# Altium integrated library Linear Technology Power Management Power-Over-Ethernet (PoE) Interface Controllers.IntLib: 174 symbols (part 14 of 16)
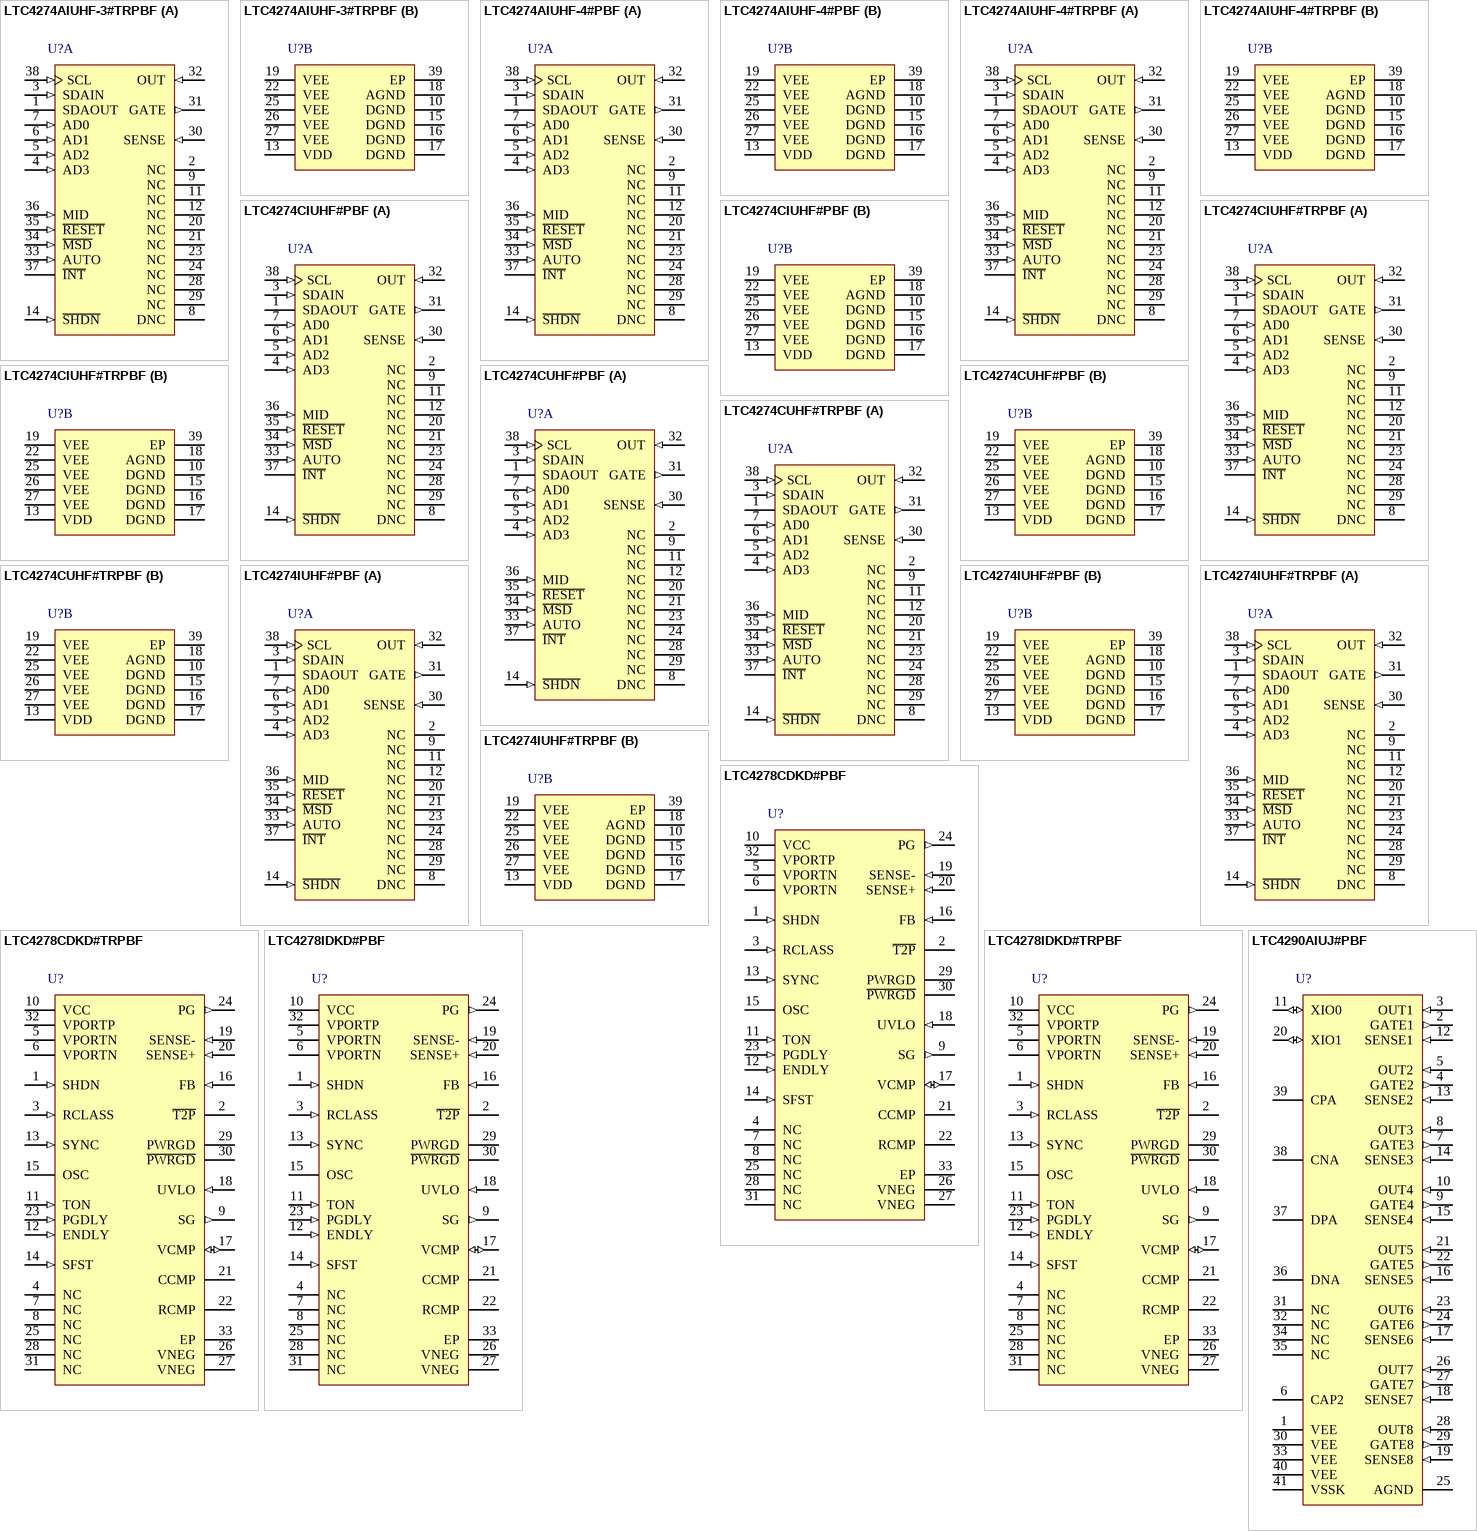
[diagram p21: symbols LTC4274AIUHF-3#TRPBF to LTC4290AIUJ#PBF]

## LTC4274AIUHF-3#TRPBF
designator U?
Single PoE / PoE+ / LTPoE++ PSE Controller, 38-pin QFN (UHF-38), -40 to 85 degC, Pb-Free, Tape and Reel; Manufacturer: Linear Technology; PartNumber: LTC4274AIUHF-3#TRPBF; Channels(#): 1; Extended Temp: I; I2C Interface: yes; Max Power(W): 70; PoE Type: 1, 2, LTPoE++; DatasheetVersion: Rev. C; PackageVersion: Rev. C, 06/2010; PackageReference: UHF-38; PackageDescription: 38-Pin Plastic QFN, Body 7 x 5 mm, Pitch 0.5 mm; Supplier 1: Digi-Key; Supplier Part Number 1: LTC4274AIUHF-3#TRPBF-ND; Packing: Tape and Reel; PSE/PD: PSE; RoHS: TRUE; Mounting Technology: Surface Mount; Code_JEDEC: MO-220; ComponentLink1Description: Manufacturer URL; ComponentLink1URL: http://www.linear.com/; ComponentLink2Description: Datasheet; ComponentLink2URL: http://cds.linear.com/docs/en/datasheet/4274acfc.pdf; ComponentLink3Description: Package Specification; ComponentLink3URL: http://cds.linear.com/docs/en/packaging/QFN_38_05-08-1701.pdf
footprint LT-UHF-38_N (QFN, 38-Leads, Body 7.1x5.1mm, Pitch 0.5mm, Thermal Pad 3.15x5.15mm, IPC Medium Density)
footprint LT-UHF-38_L (QFN, 38-Leads, Body 7.1x5.1mm, Pitch 0.5mm, Thermal Pad 3.15x5.15mm, IPC High Density)
footprint LT-UHF-38_M (QFN, 38-Leads, Body 7.1x5.1mm, Pitch 0.5mm, Thermal Pad 3.15x5.15mm, IPC Low Density)
part A pins: 1 SDAOUT (oc) "Serial Data Output, Open Drain Data Output for the I2C Serial Interface Bus.", 2 NC "All pins identified with ''NC''± or ''DNC''± must be left unconnected.", 3 SDAIN (in) "Serial Data Input. High impedance data input for the I2C serial interface bus.", 4 AD3 (in) "Address Bit 3.", 5 AD2 (in) "Address Bit 2. See AD3.", 6 AD1 (in) "Address Bit 1. See AD3.", 7 AD0 (in) "Address Bit 0. See AD3.", 8 DNC "All pins identified with ''NC''± or ''DNC''± must be left unconnected.", 9 NC "All pins identified with ''NC''± or ''DNC''± must be left unconnected.", 11 NC "All pins identified with ''NC''± or ''DNC''± must be left unconnected.", 12 NC "All pins identified with ''NC''± or ''DNC''± must be left unconnected.", 14 ~{SHDN} (in) "Shutdown, Active Low. When pulled low, S\H\D\N\ shuts down the port, regardless of the state of the internal registers. Pulling S\H\D\N\ low is equivalent to setting the Reset Port bit in the Reset Pushbutton register (1Ah). (See Datasheet)", 20 NC "All pins identified with ''NC''± or ''DNC''± must be left unconnected.", 21 NC "All pins identified with ''NC''± or ''DNC''± must be left unconnected.", 23 NC "All pins identified with ''NC''± or ''DNC''± must be left unconnected.", 24 NC "All pins identified with ''NC''± or ''DNC''± must be left unconnected.", 28 NC "All pins identified with ''NC''± or ''DNC''± must be left unconnected.", 29 NC "All pins identified with ''NC''± or ''DNC''± must be left unconnected.", 30 SENSE (in) "Current Sense Input. SENSE monitors the external MOSFET current via a 0.5ohm or 0.25ohm sense resistor between SENSE and VEE. Whenever the voltage across the sense resistor exceeds the overcurrent detection threshold VCUT, (See Datasheet)", 31 GATE (out) "Gate Drive. GATE should be connected to the gate of the external MOSFET for the port. When the MOSFET is turned on, the gate voltage is driven to 12V (typ) above VEE. During a current limit condition, the voltage at GATE (See Datasheet)", 32 OUT (in) "Output Voltage Monitor. OUT should be connected to the output port. A current limit foldback circuit limits the power dissipation in the external MOSFET by reducing the current limit threshold when the drain-to-source (See Datasheet)", 33 AUTO (in) "AUTO Pin Mode Input.", 34 ~{MSD} (in) "Maskable Shutdown Input. Active low. When pulled low, all ports that have their corresponding mask bit set in the Misc Config register (17h) will be reset, equivalent to pulling the S\H\D\N\ pin low. Internal filtering of (See Datasheet)", 35 ~{RESET} (in) "Chip Reset, Active Low.", 36 MID (in) "Midspan Mode Input.", 37 ~{INT} (hiz) "Interrupt Output, Open Drain.", 38 SCL (in) "Serial Clock Input. High impedance clock input for the I2C serial interface bus. SCL must be tied high if not used."
part B pins: 10 DGND (power) "Digital Ground. DGND is the return for the VDD supply.", 13 VDD (power) "Logic Power Supply. Connect to a 3.3V power supply relative to DGND.", 15 DGND (power) "Digital Ground. DGND is the return for the VDD supply.", 16 DGND (power) "Digital Ground. DGND is the return for the VDD supply.", 17 DGND (power) "Digital Ground. DGND is the return for the VDD supply.", 18 AGND (power) "Analog Ground. AGND is the return for the VEE supply.", 19 VEE (power) "Main Supply Input. Connect to a -45V to -57V supply, relative to AGND.", 22 VEE (power) "Main Supply Input. Connect to a -45V to -57V supply, relative to AGND.", 25 VEE (power) "Main Supply Input. Connect to a -45V to -57V supply, relative to AGND.", 26 VEE (power) "Main Supply Input. Connect to a -45V to -57V supply, relative to AGND.", 27 VEE (power) "Main Supply Input. Connect to a -45V to -57V supply, relative to AGND.", 39 EP (power)

## LTC4274AIUHF-4#PBF
designator U?
Single PoE / PoE+ / LTPoE++ PSE Controller, 38-pin QFN (UHF-38), -40 to 85 degC, Pb-Free; Manufacturer: Linear Technology; PartNumber: LTC4274AIUHF-4#PBF; Channels(#): 1; Extended Temp: I; I2C Interface: yes; Max Power(W): 90; PoE Type: 1, 2, LTPoE++; DatasheetVersion: Rev. C; PackageVersion: Rev. C, 06/2010; PackageReference: UHF-38; PackageDescription: 38-Pin Plastic QFN, Body 7 x 5 mm, Pitch 0.5 mm; Supplier 1: Digi-Key; Supplier Part Number 1: LTC4274AIUHF-4#PBF-ND; Supplier 2: Farnell; Supplier Part Number 2: 2293156; Supplier 3: Newark; Supplier Part Number 3: 59T5722; PSE/PD: PSE; RoHS: TRUE; Mounting Technology: Surface Mount; Code_JEDEC: MO-220; ComponentLink1Description: Manufacturer URL; ComponentLink1URL: http://www.linear.com/; ComponentLink2Description: Datasheet; ComponentLink2URL: http://cds.linear.com/docs/en/datasheet/4274acfc.pdf; ComponentLink3Description: Package Specification; ComponentLink3URL: http://cds.linear.com/docs/en/packaging/QFN_38_05-08-1701.pdf
footprint LT-UHF-38_N (QFN, 38-Leads, Body 7.1x5.1mm, Pitch 0.5mm, Thermal Pad 3.15x5.15mm, IPC Medium Density)
footprint LT-UHF-38_L (QFN, 38-Leads, Body 7.1x5.1mm, Pitch 0.5mm, Thermal Pad 3.15x5.15mm, IPC High Density)
footprint LT-UHF-38_M (QFN, 38-Leads, Body 7.1x5.1mm, Pitch 0.5mm, Thermal Pad 3.15x5.15mm, IPC Low Density)
part A pins: 1 SDAOUT (oc) "Serial Data Output, Open Drain Data Output for the I2C Serial Interface Bus.", 2 NC "All pins identified with ''NC''± or ''DNC''± must be left unconnected.", 3 SDAIN (in) "Serial Data Input. High impedance data input for the I2C serial interface bus.", 4 AD3 (in) "Address Bit 3.", 5 AD2 (in) "Address Bit 2. See AD3.", 6 AD1 (in) "Address Bit 1. See AD3.", 7 AD0 (in) "Address Bit 0. See AD3.", 8 DNC "All pins identified with ''NC''± or ''DNC''± must be left unconnected.", 9 NC "All pins identified with ''NC''± or ''DNC''± must be left unconnected.", 11 NC "All pins identified with ''NC''± or ''DNC''± must be left unconnected.", 12 NC "All pins identified with ''NC''± or ''DNC''± must be left unconnected.", 14 ~{SHDN} (in) "Shutdown, Active Low. When pulled low, S\H\D\N\ shuts down the port, regardless of the state of the internal registers. Pulling S\H\D\N\ low is equivalent to setting the Reset Port bit in the Reset Pushbutton register (1Ah). (See Datasheet)", 20 NC "All pins identified with ''NC''± or ''DNC''± must be left unconnected.", 21 NC "All pins identified with ''NC''± or ''DNC''± must be left unconnected.", 23 NC "All pins identified with ''NC''± or ''DNC''± must be left unconnected.", 24 NC "All pins identified with ''NC''± or ''DNC''± must be left unconnected.", 28 NC "All pins identified with ''NC''± or ''DNC''± must be left unconnected.", 29 NC "All pins identified with ''NC''± or ''DNC''± must be left unconnected.", 30 SENSE (in) "Current Sense Input. SENSE monitors the external MOSFET current via a 0.5ohm or 0.25ohm sense resistor between SENSE and VEE. Whenever the voltage across the sense resistor exceeds the overcurrent detection threshold VCUT, (See Datasheet)", 31 GATE (out) "Gate Drive. GATE should be connected to the gate of the external MOSFET for the port. When the MOSFET is turned on, the gate voltage is driven to 12V (typ) above VEE. During a current limit condition, the voltage at GATE (See Datasheet)", 32 OUT (in) "Output Voltage Monitor. OUT should be connected to the output port. A current limit foldback circuit limits the power dissipation in the external MOSFET by reducing the current limit threshold when the drain-to-source (See Datasheet)", 33 AUTO (in) "AUTO Pin Mode Input.", 34 ~{MSD} (in) "Maskable Shutdown Input. Active low. When pulled low, all ports that have their corresponding mask bit set in the Misc Config register (17h) will be reset, equivalent to pulling the S\H\D\N\ pin low. Internal filtering of (See Datasheet)", 35 ~{RESET} (in) "Chip Reset, Active Low.", 36 MID (in) "Midspan Mode Input.", 37 ~{INT} (hiz) "Interrupt Output, Open Drain.", 38 SCL (in) "Serial Clock Input. High impedance clock input for the I2C serial interface bus. SCL must be tied high if not used."
part B pins: 10 DGND (power) "Digital Ground. DGND is the return for the VDD supply.", 13 VDD (power) "Logic Power Supply. Connect to a 3.3V power supply relative to DGND.", 15 DGND (power) "Digital Ground. DGND is the return for the VDD supply.", 16 DGND (power) "Digital Ground. DGND is the return for the VDD supply.", 17 DGND (power) "Digital Ground. DGND is the return for the VDD supply.", 18 AGND (power) "Analog Ground. AGND is the return for the VEE supply.", 19 VEE (power) "Main Supply Input. Connect to a -45V to -57V supply, relative to AGND.", 22 VEE (power) "Main Supply Input. Connect to a -45V to -57V supply, relative to AGND.", 25 VEE (power) "Main Supply Input. Connect to a -45V to -57V supply, relative to AGND.", 26 VEE (power) "Main Supply Input. Connect to a -45V to -57V supply, relative to AGND.", 27 VEE (power) "Main Supply Input. Connect to a -45V to -57V supply, relative to AGND.", 39 EP (power)

## LTC4274AIUHF-4#TRPBF
designator U?
Single PoE / PoE+ / LTPoE++ PSE Controller, 38-pin QFN (UHF-38), -40 to 85 degC, Pb-Free, Tape and Reel; Manufacturer: Linear Technology; PartNumber: LTC4274AIUHF-4#TRPBF; Channels(#): 1; Extended Temp: I; I2C Interface: yes; Max Power(W): 90; PoE Type: 1, 2, LTPoE++; DatasheetVersion: Rev. C; PackageVersion: Rev. C, 06/2010; PackageReference: UHF-38; PackageDescription: 38-Pin Plastic QFN, Body 7 x 5 mm, Pitch 0.5 mm; Supplier 1: Digi-Key; Supplier Part Number 1: LTC4274AIUHF-4#TRPBF-ND; Packing: Tape and Reel; PSE/PD: PSE; RoHS: TRUE; Mounting Technology: Surface Mount; Code_JEDEC: MO-220; ComponentLink1Description: Manufacturer URL; ComponentLink1URL: http://www.linear.com/; ComponentLink2Description: Datasheet; ComponentLink2URL: http://cds.linear.com/docs/en/datasheet/4274acfc.pdf; ComponentLink3Description: Package Specification; ComponentLink3URL: http://cds.linear.com/docs/en/packaging/QFN_38_05-08-1701.pdf
footprint LT-UHF-38_N (QFN, 38-Leads, Body 7.1x5.1mm, Pitch 0.5mm, Thermal Pad 3.15x5.15mm, IPC Medium Density)
footprint LT-UHF-38_L (QFN, 38-Leads, Body 7.1x5.1mm, Pitch 0.5mm, Thermal Pad 3.15x5.15mm, IPC High Density)
footprint LT-UHF-38_M (QFN, 38-Leads, Body 7.1x5.1mm, Pitch 0.5mm, Thermal Pad 3.15x5.15mm, IPC Low Density)
part A pins: 1 SDAOUT (oc) "Serial Data Output, Open Drain Data Output for the I2C Serial Interface Bus.", 2 NC "All pins identified with ''NC''± or ''DNC''± must be left unconnected.", 3 SDAIN (in) "Serial Data Input. High impedance data input for the I2C serial interface bus.", 4 AD3 (in) "Address Bit 3.", 5 AD2 (in) "Address Bit 2. See AD3.", 6 AD1 (in) "Address Bit 1. See AD3.", 7 AD0 (in) "Address Bit 0. See AD3.", 8 DNC "All pins identified with ''NC''± or ''DNC''± must be left unconnected.", 9 NC "All pins identified with ''NC''± or ''DNC''± must be left unconnected.", 11 NC "All pins identified with ''NC''± or ''DNC''± must be left unconnected.", 12 NC "All pins identified with ''NC''± or ''DNC''± must be left unconnected.", 14 ~{SHDN} (in) "Shutdown, Active Low. When pulled low, S\H\D\N\ shuts down the port, regardless of the state of the internal registers. Pulling S\H\D\N\ low is equivalent to setting the Reset Port bit in the Reset Pushbutton register (1Ah). (See Datasheet)", 20 NC "All pins identified with ''NC''± or ''DNC''± must be left unconnected.", 21 NC "All pins identified with ''NC''± or ''DNC''± must be left unconnected.", 23 NC "All pins identified with ''NC''± or ''DNC''± must be left unconnected.", 24 NC "All pins identified with ''NC''± or ''DNC''± must be left unconnected.", 28 NC "All pins identified with ''NC''± or ''DNC''± must be left unconnected.", 29 NC "All pins identified with ''NC''± or ''DNC''± must be left unconnected.", 30 SENSE (in) "Current Sense Input. SENSE monitors the external MOSFET current via a 0.5ohm or 0.25ohm sense resistor between SENSE and VEE. Whenever the voltage across the sense resistor exceeds the overcurrent detection threshold VCUT, (See Datasheet)", 31 GATE (out) "Gate Drive. GATE should be connected to the gate of the external MOSFET for the port. When the MOSFET is turned on, the gate voltage is driven to 12V (typ) above VEE. During a current limit condition, the voltage at GATE (See Datasheet)", 32 OUT (in) "Output Voltage Monitor. OUT should be connected to the output port. A current limit foldback circuit limits the power dissipation in the external MOSFET by reducing the current limit threshold when the drain-to-source (See Datasheet)", 33 AUTO (in) "AUTO Pin Mode Input.", 34 ~{MSD} (in) "Maskable Shutdown Input. Active low. When pulled low, all ports that have their corresponding mask bit set in the Misc Config register (17h) will be reset, equivalent to pulling the S\H\D\N\ pin low. Internal filtering of (See Datasheet)", 35 ~{RESET} (in) "Chip Reset, Active Low.", 36 MID (in) "Midspan Mode Input.", 37 ~{INT} (hiz) "Interrupt Output, Open Drain.", 38 SCL (in) "Serial Clock Input. High impedance clock input for the I2C serial interface bus. SCL must be tied high if not used."
part B pins: 10 DGND (power) "Digital Ground. DGND is the return for the VDD supply.", 13 VDD (power) "Logic Power Supply. Connect to a 3.3V power supply relative to DGND.", 15 DGND (power) "Digital Ground. DGND is the return for the VDD supply.", 16 DGND (power) "Digital Ground. DGND is the return for the VDD supply.", 17 DGND (power) "Digital Ground. DGND is the return for the VDD supply.", 18 AGND (power) "Analog Ground. AGND is the return for the VEE supply.", 19 VEE (power) "Main Supply Input. Connect to a -45V to -57V supply, relative to AGND.", 22 VEE (power) "Main Supply Input. Connect to a -45V to -57V supply, relative to AGND.", 25 VEE (power) "Main Supply Input. Connect to a -45V to -57V supply, relative to AGND.", 26 VEE (power) "Main Supply Input. Connect to a -45V to -57V supply, relative to AGND.", 27 VEE (power) "Main Supply Input. Connect to a -45V to -57V supply, relative to AGND.", 39 EP (power)

## LTC4274CIUHF#PBF
designator U?
Single PoE / PoE+ / LTPoE++ PSE Controller, 38-pin QFN (UHF-38), -40 to 85 degC, Pb-Free; Manufacturer: Linear Technology; PartNumber: LTC4274CIUHF#PBF; Channels(#): 1; Extended Temp: I; I2C Interface: yes; Max Power(W): 13; DatasheetVersion: Rev. C; PackageVersion: Rev. C, 06/2010; PackageReference: UHF-38; PackageDescription: 38-Pin Plastic QFN, Body 7 x 5 mm, Pitch 0.5 mm; Supplier 1: Digi-Key; Supplier Part Number 1: LTC4274CIUHF#PBF-ND; Supplier 2: Farnell; Supplier Part Number 2: 2293157; Supplier 3: Newark; Supplier Part Number 3: 59T5724; PoE Type: 1; PSE/PD: PSE; RoHS: TRUE; Mounting Technology: Surface Mount; Code_JEDEC: MO-220; ComponentLink1Description: Manufacturer URL; ComponentLink1URL: http://www.linear.com/; ComponentLink2Description: Datasheet; ComponentLink2URL: http://cds.linear.com/docs/en/datasheet/4274acfc.pdf; ComponentLink3Description: Package Specification; ComponentLink3URL: http://cds.linear.com/docs/en/packaging/QFN_38_05-08-1701.pdf
footprint LT-UHF-38_N (QFN, 38-Leads, Body 7.1x5.1mm, Pitch 0.5mm, Thermal Pad 3.15x5.15mm, IPC Medium Density)
footprint LT-UHF-38_L (QFN, 38-Leads, Body 7.1x5.1mm, Pitch 0.5mm, Thermal Pad 3.15x5.15mm, IPC High Density)
footprint LT-UHF-38_M (QFN, 38-Leads, Body 7.1x5.1mm, Pitch 0.5mm, Thermal Pad 3.15x5.15mm, IPC Low Density)
part A pins: 1 SDAOUT (oc) "Serial Data Output, Open Drain Data Output for the I2C Serial Interface Bus.", 2 NC "All pins identified with ''NC''± or ''DNC''± must be left unconnected.", 3 SDAIN (in) "Serial Data Input. High impedance data input for the I2C serial interface bus.", 4 AD3 (in) "Address Bit 3.", 5 AD2 (in) "Address Bit 2. See AD3.", 6 AD1 (in) "Address Bit 1. See AD3.", 7 AD0 (in) "Address Bit 0. See AD3.", 8 DNC "All pins identified with ''NC''± or ''DNC''± must be left unconnected.", 9 NC "All pins identified with ''NC''± or ''DNC''± must be left unconnected.", 11 NC "All pins identified with ''NC''± or ''DNC''± must be left unconnected.", 12 NC "All pins identified with ''NC''± or ''DNC''± must be left unconnected.", 14 ~{SHDN} (in) "Shutdown, Active Low. When pulled low, S\H\D\N\ shuts down the port, regardless of the state of the internal registers. Pulling S\H\D\N\ low is equivalent to setting the Reset Port bit in the Reset Pushbutton register (1Ah). (See Datasheet)", 20 NC "All pins identified with ''NC''± or ''DNC''± must be left unconnected.", 21 NC "All pins identified with ''NC''± or ''DNC''± must be left unconnected.", 23 NC "All pins identified with ''NC''± or ''DNC''± must be left unconnected.", 24 NC "All pins identified with ''NC''± or ''DNC''± must be left unconnected.", 28 NC "All pins identified with ''NC''± or ''DNC''± must be left unconnected.", 29 NC "All pins identified with ''NC''± or ''DNC''± must be left unconnected.", 30 SENSE (in) "Current Sense Input. SENSE monitors the external MOSFET current via a 0.5ohm or 0.25ohm sense resistor between SENSE and VEE. Whenever the voltage across the sense resistor exceeds the overcurrent detection threshold VCUT, (See Datasheet)", 31 GATE (out) "Gate Drive. GATE should be connected to the gate of the external MOSFET for the port. When the MOSFET is turned on, the gate voltage is driven to 12V (typ) above VEE. During a current limit condition, the voltage at GATE (See Datasheet)", 32 OUT (in) "Output Voltage Monitor. OUT should be connected to the output port. A current limit foldback circuit limits the power dissipation in the external MOSFET by reducing the current limit threshold when the drain-to-source (See Datasheet)", 33 AUTO (in) "AUTO Pin Mode Input.", 34 ~{MSD} (in) "Maskable Shutdown Input. Active low. When pulled low, all ports that have their corresponding mask bit set in the Misc Config register (17h) will be reset, equivalent to pulling the S\H\D\N\ pin low. Internal filtering of (See Datasheet)", 35 ~{RESET} (in) "Chip Reset, Active Low.", 36 MID (in) "Midspan Mode Input.", 37 ~{INT} (hiz) "Interrupt Output, Open Drain.", 38 SCL (in) "Serial Clock Input. High impedance clock input for the I2C serial interface bus. SCL must be tied high if not used."
part B pins: 10 DGND (power) "Digital Ground. DGND is the return for the VDD supply.", 13 VDD (power) "Logic Power Supply. Connect to a 3.3V power supply relative to DGND.", 15 DGND (power) "Digital Ground. DGND is the return for the VDD supply.", 16 DGND (power) "Digital Ground. DGND is the return for the VDD supply.", 17 DGND (power) "Digital Ground. DGND is the return for the VDD supply.", 18 AGND (power) "Analog Ground. AGND is the return for the VEE supply.", 19 VEE (power) "Main Supply Input. Connect to a -45V to -57V supply, relative to AGND.", 22 VEE (power) "Main Supply Input. Connect to a -45V to -57V supply, relative to AGND.", 25 VEE (power) "Main Supply Input. Connect to a -45V to -57V supply, relative to AGND.", 26 VEE (power) "Main Supply Input. Connect to a -45V to -57V supply, relative to AGND.", 27 VEE (power) "Main Supply Input. Connect to a -45V to -57V supply, relative to AGND.", 39 EP (power)

## LTC4274CIUHF#TRPBF
designator U?
Single PoE / PoE+ / LTPoE++ PSE Controller, 38-pin QFN (UHF-38), -40 to 85 degC, Pb-Free, Tape and Reel; Manufacturer: Linear Technology; PartNumber: LTC4274CIUHF#TRPBF; Channels(#): 1; Extended Temp: I; I2C Interface: yes; Max Power(W): 13; DatasheetVersion: Rev. C; PackageVersion: Rev. C, 06/2010; PackageReference: UHF-38; PackageDescription: 38-Pin Plastic QFN, Body 7 x 5 mm, Pitch 0.5 mm; Supplier 1: Digi-Key; Supplier Part Number 1: LTC4274CIUHF#TRPBF-ND; Packing: Tape and Reel; PoE Type: 1; PSE/PD: PSE; RoHS: TRUE; Mounting Technology: Surface Mount; Code_JEDEC: MO-220; ComponentLink1Description: Manufacturer URL; ComponentLink1URL: http://www.linear.com/; ComponentLink2Description: Datasheet; ComponentLink2URL: http://cds.linear.com/docs/en/datasheet/4274acfc.pdf; ComponentLink3Description: Package Specification; ComponentLink3URL: http://cds.linear.com/docs/en/packaging/QFN_38_05-08-1701.pdf
footprint LT-UHF-38_N (QFN, 38-Leads, Body 7.1x5.1mm, Pitch 0.5mm, Thermal Pad 3.15x5.15mm, IPC Medium Density)
footprint LT-UHF-38_L (QFN, 38-Leads, Body 7.1x5.1mm, Pitch 0.5mm, Thermal Pad 3.15x5.15mm, IPC High Density)
footprint LT-UHF-38_M (QFN, 38-Leads, Body 7.1x5.1mm, Pitch 0.5mm, Thermal Pad 3.15x5.15mm, IPC Low Density)
part A pins: 1 SDAOUT (oc) "Serial Data Output, Open Drain Data Output for the I2C Serial Interface Bus.", 2 NC "All pins identified with ''NC''± or ''DNC''± must be left unconnected.", 3 SDAIN (in) "Serial Data Input. High impedance data input for the I2C serial interface bus.", 4 AD3 (in) "Address Bit 3.", 5 AD2 (in) "Address Bit 2. See AD3.", 6 AD1 (in) "Address Bit 1. See AD3.", 7 AD0 (in) "Address Bit 0. See AD3.", 8 DNC "All pins identified with ''NC''± or ''DNC''± must be left unconnected.", 9 NC "All pins identified with ''NC''± or ''DNC''± must be left unconnected.", 11 NC "All pins identified with ''NC''± or ''DNC''± must be left unconnected.", 12 NC "All pins identified with ''NC''± or ''DNC''± must be left unconnected.", 14 ~{SHDN} (in) "Shutdown, Active Low. When pulled low, S\H\D\N\ shuts down the port, regardless of the state of the internal registers. Pulling S\H\D\N\ low is equivalent to setting the Reset Port bit in the Reset Pushbutton register (1Ah). (See Datasheet)", 20 NC "All pins identified with ''NC''± or ''DNC''± must be left unconnected.", 21 NC "All pins identified with ''NC''± or ''DNC''± must be left unconnected.", 23 NC "All pins identified with ''NC''± or ''DNC''± must be left unconnected.", 24 NC "All pins identified with ''NC''± or ''DNC''± must be left unconnected.", 28 NC "All pins identified with ''NC''± or ''DNC''± must be left unconnected.", 29 NC "All pins identified with ''NC''± or ''DNC''± must be left unconnected.", 30 SENSE (in) "Current Sense Input. SENSE monitors the external MOSFET current via a 0.5ohm or 0.25ohm sense resistor between SENSE and VEE. Whenever the voltage across the sense resistor exceeds the overcurrent detection threshold VCUT, (See Datasheet)", 31 GATE (out) "Gate Drive. GATE should be connected to the gate of the external MOSFET for the port. When the MOSFET is turned on, the gate voltage is driven to 12V (typ) above VEE. During a current limit condition, the voltage at GATE (See Datasheet)", 32 OUT (in) "Output Voltage Monitor. OUT should be connected to the output port. A current limit foldback circuit limits the power dissipation in the external MOSFET by reducing the current limit threshold when the drain-to-source (See Datasheet)", 33 AUTO (in) "AUTO Pin Mode Input.", 34 ~{MSD} (in) "Maskable Shutdown Input. Active low. When pulled low, all ports that have their corresponding mask bit set in the Misc Config register (17h) will be reset, equivalent to pulling the S\H\D\N\ pin low. Internal filtering of (See Datasheet)", 35 ~{RESET} (in) "Chip Reset, Active Low.", 36 MID (in) "Midspan Mode Input.", 37 ~{INT} (hiz) "Interrupt Output, Open Drain.", 38 SCL (in) "Serial Clock Input. High impedance clock input for the I2C serial interface bus. SCL must be tied high if not used."
part B pins: 10 DGND (power) "Digital Ground. DGND is the return for the VDD supply.", 13 VDD (power) "Logic Power Supply. Connect to a 3.3V power supply relative to DGND.", 15 DGND (power) "Digital Ground. DGND is the return for the VDD supply.", 16 DGND (power) "Digital Ground. DGND is the return for the VDD supply.", 17 DGND (power) "Digital Ground. DGND is the return for the VDD supply.", 18 AGND (power) "Analog Ground. AGND is the return for the VEE supply.", 19 VEE (power) "Main Supply Input. Connect to a -45V to -57V supply, relative to AGND.", 22 VEE (power) "Main Supply Input. Connect to a -45V to -57V supply, relative to AGND.", 25 VEE (power) "Main Supply Input. Connect to a -45V to -57V supply, relative to AGND.", 26 VEE (power) "Main Supply Input. Connect to a -45V to -57V supply, relative to AGND.", 27 VEE (power) "Main Supply Input. Connect to a -45V to -57V supply, relative to AGND.", 39 EP (power)

## LTC4274CUHF#PBF
designator U?
Single PoE+ PSE Controller, 38-pin QFN (UHF-38), 0 to 70 degC, Pb-Free; Manufacturer: Linear Technology; PartNumber: LTC4274CUHF#PBF; Channels(#): 1; Extended Temp: C, I; I2C Interface: yes; Max Power(W): 25.5; PoE Type: 2; DatasheetVersion: Rev. D; PackageVersion: Rev. C, 06/2010; PackageReference: UHF-38; PackageDescription: 38-Pin Plastic QFN, Body 7 x 5 mm, Pitch 0.5 mm; Supplier 1: Digi-Key; Supplier Part Number 1: LTC4274CUHF#PBF-ND; Supplier 2: Farnell; Supplier Part Number 2: 2293159; Supplier 3: Newark; Supplier Part Number 3: 51R1516; PSE/PD: PSE; RoHS: TRUE; Mounting Technology: Surface Mount; Code_JEDEC: MO-220; ComponentLink1Description: Manufacturer URL; ComponentLink1URL: http://www.linear.com/; ComponentLink2Description: Datasheet; ComponentLink2URL: http://cds.linear.com/docs/en/datasheet/4274fd.pdf; ComponentLink3Description: Package Specification; ComponentLink3URL: http://cds.linear.com/docs/en/packaging/QFN_38_05-08-1701.pdf
footprint LT-UHF-38_N (QFN, 38-Leads, Body 7.1x5.1mm, Pitch 0.5mm, Thermal Pad 3.15x5.15mm, IPC Medium Density)
footprint LT-UHF-38_L (QFN, 38-Leads, Body 7.1x5.1mm, Pitch 0.5mm, Thermal Pad 3.15x5.15mm, IPC High Density)
footprint LT-UHF-38_M (QFN, 38-Leads, Body 7.1x5.1mm, Pitch 0.5mm, Thermal Pad 3.15x5.15mm, IPC Low Density)
part A pins: 1 SDAOUT (oc) "Serial Data Output, Open Drain Data Output for the I2C Serial Interface Bus.", 2 NC "All pins identified with ''NC''± or ''DNC''± must be left unconnected.", 3 SDAIN (in) "Serial Data Input. High impedance data input for the I2C serial interface bus.", 4 AD3 (in) "Address Bit 3.", 5 AD2 (in) "Address Bit 2. See AD3.", 6 AD1 (in) "Address Bit 1. See AD3.", 7 AD0 (in) "Address Bit 0. See AD3.", 8 DNC "All pins identified with ''NC''± or ''DNC''± must be left unconnected.", 9 NC "All pins identified with ''NC''± or ''DNC''± must be left unconnected.", 11 NC "All pins identified with ''NC''± or ''DNC''± must be left unconnected.", 12 NC "All pins identified with ''NC''± or ''DNC''± must be left unconnected.", 14 ~{SHDN} (in) "Shutdown, Active Low. When pulled low, S\H\D\N\ shuts down the port, regardless of the state of the internal registers. Pulling S\H\D\N\ low is equivalent to setting the Reset Port bit in the Reset Pushbutton register (1Ah). (See Datasheet)", 20 NC "All pins identified with ''NC''± or ''DNC''± must be left unconnected.", 21 NC "All pins identified with ''NC''± or ''DNC''± must be left unconnected.", 23 NC "All pins identified with ''NC''± or ''DNC''± must be left unconnected.", 24 NC "All pins identified with ''NC''± or ''DNC''± must be left unconnected.", 28 NC "All pins identified with ''NC''± or ''DNC''± must be left unconnected.", 29 NC "All pins identified with ''NC''± or ''DNC''± must be left unconnected.", 30 SENSE (in) "Current Sense Input. SENSE monitors the external MOSFET current via a 0.5ohm or 0.25ohm sense resistor between SENSE and VEE. Whenever the voltage across the sense resistor exceeds the overcurrent detection threshold VCUT, (See Datasheet)", 31 GATE (out) "Gate Drive. GATE should be connected to the gate of the external MOSFET for the port. When the MOSFET is turned on, the gate voltage is driven to 12V (typ) above VEE. During a current limit condition, the voltage at GATE (See Datasheet)", 32 OUT (in) "Output Voltage Monitor. OUT should be connected to the output port. A current limit foldback circuit limits the power dissipation in the external MOSFET by reducing the current limit threshold when the drain-to-source (See Datasheet)", 33 AUTO (in) "AUTO Pin Mode Input.", 34 ~{MSD} (in) "Maskable Shutdown Input. Active low. When pulled low, all ports that have their corresponding mask bit set in the Misc Config register (17h) will be reset, equivalent to pulling the S\H\D\N\ pin low. Internal filtering of (See Datasheet)", 35 ~{RESET} (in) "Chip Reset, Active Low.", 36 MID (in) "Midspan Mode Input.", 37 ~{INT} (hiz) "Interrupt Output, Open Drain.", 38 SCL (in) "Serial Clock Input. High impedance clock input for the I2C serial interface bus. SCL must be tied high if not used."
part B pins: 10 DGND (power) "Digital Ground. DGND is the return for the VDD supply.", 13 VDD (power) "Logic Power Supply. Connect to a 3.3V power supply relative to DGND.", 15 DGND (power) "Digital Ground. DGND is the return for the VDD supply.", 16 DGND (power) "Digital Ground. DGND is the return for the VDD supply.", 17 DGND (power) "Digital Ground. DGND is the return for the VDD supply.", 18 AGND (power) "Analog Ground. AGND is the return for the VEE supply.", 19 VEE (power) "Main Supply Input. Connect to a -45V to -57V supply, relative to AGND.", 22 VEE (power) "Main Supply Input. Connect to a -45V to -57V supply, relative to AGND.", 25 VEE (power) "Main Supply Input. Connect to a -45V to -57V supply, relative to AGND.", 26 VEE (power) "Main Supply Input. Connect to a -45V to -57V supply, relative to AGND.", 27 VEE (power) "Main Supply Input. Connect to a -45V to -57V supply, relative to AGND.", 39 EP (power)

## LTC4274CUHF#TRPBF
designator U?
Single PoE+ PSE Controller, 38-pin QFN (UHF-38), 0 to 70 degC, Pb-Free, Tape and Reel; Manufacturer: Linear Technology; PartNumber: LTC4274CUHF#TRPBF; Channels(#): 1; Extended Temp: C, I; I2C Interface: yes; Max Power(W): 25.5; PoE Type: 2; DatasheetVersion: Rev. D; PackageVersion: Rev. C, 06/2010; PackageReference: UHF-38; PackageDescription: 38-Pin Plastic QFN, Body 7 x 5 mm, Pitch 0.5 mm; Packing: Tape and Reel; PSE/PD: PSE; RoHS: TRUE; Mounting Technology: Surface Mount; Code_JEDEC: MO-220; ComponentLink1Description: Manufacturer URL; ComponentLink1URL: http://www.linear.com/; ComponentLink2Description: Datasheet; ComponentLink2URL: http://cds.linear.com/docs/en/datasheet/4274fd.pdf; ComponentLink3Description: Package Specification; ComponentLink3URL: http://cds.linear.com/docs/en/packaging/QFN_38_05-08-1701.pdf
footprint LT-UHF-38_N (QFN, 38-Leads, Body 7.1x5.1mm, Pitch 0.5mm, Thermal Pad 3.15x5.15mm, IPC Medium Density)
footprint LT-UHF-38_L (QFN, 38-Leads, Body 7.1x5.1mm, Pitch 0.5mm, Thermal Pad 3.15x5.15mm, IPC High Density)
footprint LT-UHF-38_M (QFN, 38-Leads, Body 7.1x5.1mm, Pitch 0.5mm, Thermal Pad 3.15x5.15mm, IPC Low Density)
part A pins: 1 SDAOUT (oc) "Serial Data Output, Open Drain Data Output for the I2C Serial Interface Bus.", 2 NC "All pins identified with ''NC''± or ''DNC''± must be left unconnected.", 3 SDAIN (in) "Serial Data Input. High impedance data input for the I2C serial interface bus.", 4 AD3 (in) "Address Bit 3.", 5 AD2 (in) "Address Bit 2. See AD3.", 6 AD1 (in) "Address Bit 1. See AD3.", 7 AD0 (in) "Address Bit 0. See AD3.", 8 DNC "All pins identified with ''NC''± or ''DNC''± must be left unconnected.", 9 NC "All pins identified with ''NC''± or ''DNC''± must be left unconnected.", 11 NC "All pins identified with ''NC''± or ''DNC''± must be left unconnected.", 12 NC "All pins identified with ''NC''± or ''DNC''± must be left unconnected.", 14 ~{SHDN} (in) "Shutdown, Active Low. When pulled low, S\H\D\N\ shuts down the port, regardless of the state of the internal registers. Pulling S\H\D\N\ low is equivalent to setting the Reset Port bit in the Reset Pushbutton register (1Ah). (See Datasheet)", 20 NC "All pins identified with ''NC''± or ''DNC''± must be left unconnected.", 21 NC "All pins identified with ''NC''± or ''DNC''± must be left unconnected.", 23 NC "All pins identified with ''NC''± or ''DNC''± must be left unconnected.", 24 NC "All pins identified with ''NC''± or ''DNC''± must be left unconnected.", 28 NC "All pins identified with ''NC''± or ''DNC''± must be left unconnected.", 29 NC "All pins identified with ''NC''± or ''DNC''± must be left unconnected.", 30 SENSE (in) "Current Sense Input. SENSE monitors the external MOSFET current via a 0.5ohm or 0.25ohm sense resistor between SENSE and VEE. Whenever the voltage across the sense resistor exceeds the overcurrent detection threshold VCUT, (See Datasheet)", 31 GATE (out) "Gate Drive. GATE should be connected to the gate of the external MOSFET for the port. When the MOSFET is turned on, the gate voltage is driven to 12V (typ) above VEE. During a current limit condition, the voltage at GATE (See Datasheet)", 32 OUT (in) "Output Voltage Monitor. OUT should be connected to the output port. A current limit foldback circuit limits the power dissipation in the external MOSFET by reducing the current limit threshold when the drain-to-source (See Datasheet)", 33 AUTO (in) "AUTO Pin Mode Input.", 34 ~{MSD} (in) "Maskable Shutdown Input. Active low. When pulled low, all ports that have their corresponding mask bit set in the Misc Config register (17h) will be reset, equivalent to pulling the S\H\D\N\ pin low. Internal filtering of (See Datasheet)", 35 ~{RESET} (in) "Chip Reset, Active Low.", 36 MID (in) "Midspan Mode Input.", 37 ~{INT} (hiz) "Interrupt Output, Open Drain.", 38 SCL (in) "Serial Clock Input. High impedance clock input for the I2C serial interface bus. SCL must be tied high if not used."
part B pins: 10 DGND (power) "Digital Ground. DGND is the return for the VDD supply.", 13 VDD (power) "Logic Power Supply. Connect to a 3.3V power supply relative to DGND.", 15 DGND (power) "Digital Ground. DGND is the return for the VDD supply.", 16 DGND (power) "Digital Ground. DGND is the return for the VDD supply.", 17 DGND (power) "Digital Ground. DGND is the return for the VDD supply.", 18 AGND (power) "Analog Ground. AGND is the return for the VEE supply.", 19 VEE (power) "Main Supply Input. Connect to a -45V to -57V supply, relative to AGND.", 22 VEE (power) "Main Supply Input. Connect to a -45V to -57V supply, relative to AGND.", 25 VEE (power) "Main Supply Input. Connect to a -45V to -57V supply, relative to AGND.", 26 VEE (power) "Main Supply Input. Connect to a -45V to -57V supply, relative to AGND.", 27 VEE (power) "Main Supply Input. Connect to a -45V to -57V supply, relative to AGND.", 39 EP (power)

## LTC4274IUHF#PBF
designator U?
Single PoE+ PSE Controller, 38-pin QFN (UHF-38), -40 to 85 degC, Pb-Free; Manufacturer: Linear Technology; PartNumber: LTC4274IUHF#PBF; Channels(#): 1; Extended Temp: C, I; I2C Interface: yes; Max Power(W): 25.5; PoE Type: 2; DatasheetVersion: Rev. D; PackageVersion: Rev. C, 06/2010; PackageReference: UHF-38; PackageDescription: 38-Pin Plastic QFN, Body 7 x 5 mm, Pitch 0.5 mm; Supplier 1: Digi-Key; Supplier Part Number 1: LTC4274IUHF#PBF-ND; Supplier 2: Farnell; Supplier Part Number 2: 1839264; Supplier 3: Newark; Supplier Part Number 3: 51R1517; PSE/PD: PSE; RoHS: TRUE; Mounting Technology: Surface Mount; Code_JEDEC: MO-220; ComponentLink1Description: Manufacturer URL; ComponentLink1URL: http://www.linear.com/; ComponentLink2Description: Datasheet; ComponentLink2URL: http://cds.linear.com/docs/en/datasheet/4274fd.pdf; ComponentLink3Description: Package Specification; ComponentLink3URL: http://cds.linear.com/docs/en/packaging/QFN_38_05-08-1701.pdf
footprint LT-UHF-38_N (QFN, 38-Leads, Body 7.1x5.1mm, Pitch 0.5mm, Thermal Pad 3.15x5.15mm, IPC Medium Density)
footprint LT-UHF-38_L (QFN, 38-Leads, Body 7.1x5.1mm, Pitch 0.5mm, Thermal Pad 3.15x5.15mm, IPC High Density)
footprint LT-UHF-38_M (QFN, 38-Leads, Body 7.1x5.1mm, Pitch 0.5mm, Thermal Pad 3.15x5.15mm, IPC Low Density)
part A pins: 1 SDAOUT (oc) "Serial Data Output, Open Drain Data Output for the I2C Serial Interface Bus.", 2 NC "All pins identified with ''NC''± or ''DNC''± must be left unconnected.", 3 SDAIN (in) "Serial Data Input. High impedance data input for the I2C serial interface bus.", 4 AD3 (in) "Address Bit 3.", 5 AD2 (in) "Address Bit 2. See AD3.", 6 AD1 (in) "Address Bit 1. See AD3.", 7 AD0 (in) "Address Bit 0. See AD3.", 8 DNC "All pins identified with ''NC''± or ''DNC''± must be left unconnected.", 9 NC "All pins identified with ''NC''± or ''DNC''± must be left unconnected.", 11 NC "All pins identified with ''NC''± or ''DNC''± must be left unconnected.", 12 NC "All pins identified with ''NC''± or ''DNC''± must be left unconnected.", 14 ~{SHDN} (in) "Shutdown, Active Low. When pulled low, S\H\D\N\ shuts down the port, regardless of the state of the internal registers. Pulling S\H\D\N\ low is equivalent to setting the Reset Port bit in the Reset Pushbutton register (1Ah). (See Datasheet)", 20 NC "All pins identified with ''NC''± or ''DNC''± must be left unconnected.", 21 NC "All pins identified with ''NC''± or ''DNC''± must be left unconnected.", 23 NC "All pins identified with ''NC''± or ''DNC''± must be left unconnected.", 24 NC "All pins identified with ''NC''± or ''DNC''± must be left unconnected.", 28 NC "All pins identified with ''NC''± or ''DNC''± must be left unconnected.", 29 NC "All pins identified with ''NC''± or ''DNC''± must be left unconnected.", 30 SENSE (in) "Current Sense Input. SENSE monitors the external MOSFET current via a 0.5ohm or 0.25ohm sense resistor between SENSE and VEE. Whenever the voltage across the sense resistor exceeds the overcurrent detection threshold VCUT, (See Datasheet)", 31 GATE (out) "Gate Drive. GATE should be connected to the gate of the external MOSFET for the port. When the MOSFET is turned on, the gate voltage is driven to 12V (typ) above VEE. During a current limit condition, the voltage at GATE (See Datasheet)", 32 OUT (in) "Output Voltage Monitor. OUT should be connected to the output port. A current limit foldback circuit limits the power dissipation in the external MOSFET by reducing the current limit threshold when the drain-to-source (See Datasheet)", 33 AUTO (in) "AUTO Pin Mode Input.", 34 ~{MSD} (in) "Maskable Shutdown Input. Active low. When pulled low, all ports that have their corresponding mask bit set in the Misc Config register (17h) will be reset, equivalent to pulling the S\H\D\N\ pin low. Internal filtering of (See Datasheet)", 35 ~{RESET} (in) "Chip Reset, Active Low.", 36 MID (in) "Midspan Mode Input.", 37 ~{INT} (hiz) "Interrupt Output, Open Drain.", 38 SCL (in) "Serial Clock Input. High impedance clock input for the I2C serial interface bus. SCL must be tied high if not used."
part B pins: 10 DGND (power) "Digital Ground. DGND is the return for the VDD supply.", 13 VDD (power) "Logic Power Supply. Connect to a 3.3V power supply relative to DGND.", 15 DGND (power) "Digital Ground. DGND is the return for the VDD supply.", 16 DGND (power) "Digital Ground. DGND is the return for the VDD supply.", 17 DGND (power) "Digital Ground. DGND is the return for the VDD supply.", 18 AGND (power) "Analog Ground. AGND is the return for the VEE supply.", 19 VEE (power) "Main Supply Input. Connect to a -45V to -57V supply, relative to AGND.", 22 VEE (power) "Main Supply Input. Connect to a -45V to -57V supply, relative to AGND.", 25 VEE (power) "Main Supply Input. Connect to a -45V to -57V supply, relative to AGND.", 26 VEE (power) "Main Supply Input. Connect to a -45V to -57V supply, relative to AGND.", 27 VEE (power) "Main Supply Input. Connect to a -45V to -57V supply, relative to AGND.", 39 EP (power)

## LTC4274IUHF#TRPBF
designator U?
Single PoE+ PSE Controller, 38-pin QFN (UHF-38), -40 to 85 degC, Pb-Free, Tape and Reel; Manufacturer: Linear Technology; PartNumber: LTC4274IUHF#TRPBF; Channels(#): 1; Extended Temp: C, I; I2C Interface: yes; Max Power(W): 25.5; PoE Type: 2; DatasheetVersion: Rev. D; PackageVersion: Rev. C, 06/2010; PackageReference: UHF-38; PackageDescription: 38-Pin Plastic QFN, Body 7 x 5 mm, Pitch 0.5 mm; Supplier 1: Newark; Supplier Part Number 1: 72R5710; Packing: Tape and Reel; PSE/PD: PSE; RoHS: TRUE; Mounting Technology: Surface Mount; Code_JEDEC: MO-220; ComponentLink1Description: Manufacturer URL; ComponentLink1URL: http://www.linear.com/; ComponentLink2Description: Datasheet; ComponentLink2URL: http://cds.linear.com/docs/en/datasheet/4274fd.pdf; ComponentLink3Description: Package Specification; ComponentLink3URL: http://cds.linear.com/docs/en/packaging/QFN_38_05-08-1701.pdf
footprint LT-UHF-38_N (QFN, 38-Leads, Body 7.1x5.1mm, Pitch 0.5mm, Thermal Pad 3.15x5.15mm, IPC Medium Density)
footprint LT-UHF-38_L (QFN, 38-Leads, Body 7.1x5.1mm, Pitch 0.5mm, Thermal Pad 3.15x5.15mm, IPC High Density)
footprint LT-UHF-38_M (QFN, 38-Leads, Body 7.1x5.1mm, Pitch 0.5mm, Thermal Pad 3.15x5.15mm, IPC Low Density)
part A pins: 1 SDAOUT (oc) "Serial Data Output, Open Drain Data Output for the I2C Serial Interface Bus.", 2 NC "All pins identified with ''NC''± or ''DNC''± must be left unconnected.", 3 SDAIN (in) "Serial Data Input. High impedance data input for the I2C serial interface bus.", 4 AD3 (in) "Address Bit 3.", 5 AD2 (in) "Address Bit 2. See AD3.", 6 AD1 (in) "Address Bit 1. See AD3.", 7 AD0 (in) "Address Bit 0. See AD3.", 8 DNC "All pins identified with ''NC''± or ''DNC''± must be left unconnected.", 9 NC "All pins identified with ''NC''± or ''DNC''± must be left unconnected.", 11 NC "All pins identified with ''NC''± or ''DNC''± must be left unconnected.", 12 NC "All pins identified with ''NC''± or ''DNC''± must be left unconnected.", 14 ~{SHDN} (in) "Shutdown, Active Low. When pulled low, S\H\D\N\ shuts down the port, regardless of the state of the internal registers. Pulling S\H\D\N\ low is equivalent to setting the Reset Port bit in the Reset Pushbutton register (1Ah). (See Datasheet)", 20 NC "All pins identified with ''NC''± or ''DNC''± must be left unconnected.", 21 NC "All pins identified with ''NC''± or ''DNC''± must be left unconnected.", 23 NC "All pins identified with ''NC''± or ''DNC''± must be left unconnected.", 24 NC "All pins identified with ''NC''± or ''DNC''± must be left unconnected.", 28 NC "All pins identified with ''NC''± or ''DNC''± must be left unconnected.", 29 NC "All pins identified with ''NC''± or ''DNC''± must be left unconnected.", 30 SENSE (in) "Current Sense Input. SENSE monitors the external MOSFET current via a 0.5ohm or 0.25ohm sense resistor between SENSE and VEE. Whenever the voltage across the sense resistor exceeds the overcurrent detection threshold VCUT, (See Datasheet)", 31 GATE (out) "Gate Drive. GATE should be connected to the gate of the external MOSFET for the port. When the MOSFET is turned on, the gate voltage is driven to 12V (typ) above VEE. During a current limit condition, the voltage at GATE (See Datasheet)", 32 OUT (in) "Output Voltage Monitor. OUT should be connected to the output port. A current limit foldback circuit limits the power dissipation in the external MOSFET by reducing the current limit threshold when the drain-to-source (See Datasheet)", 33 AUTO (in) "AUTO Pin Mode Input.", 34 ~{MSD} (in) "Maskable Shutdown Input. Active low. When pulled low, all ports that have their corresponding mask bit set in the Misc Config register (17h) will be reset, equivalent to pulling the S\H\D\N\ pin low. Internal filtering of (See Datasheet)", 35 ~{RESET} (in) "Chip Reset, Active Low.", 36 MID (in) "Midspan Mode Input.", 37 ~{INT} (hiz) "Interrupt Output, Open Drain.", 38 SCL (in) "Serial Clock Input. High impedance clock input for the I2C serial interface bus. SCL must be tied high if not used."
part B pins: 10 DGND (power) "Digital Ground. DGND is the return for the VDD supply.", 13 VDD (power) "Logic Power Supply. Connect to a 3.3V power supply relative to DGND.", 15 DGND (power) "Digital Ground. DGND is the return for the VDD supply.", 16 DGND (power) "Digital Ground. DGND is the return for the VDD supply.", 17 DGND (power) "Digital Ground. DGND is the return for the VDD supply.", 18 AGND (power) "Analog Ground. AGND is the return for the VEE supply.", 19 VEE (power) "Main Supply Input. Connect to a -45V to -57V supply, relative to AGND.", 22 VEE (power) "Main Supply Input. Connect to a -45V to -57V supply, relative to AGND.", 25 VEE (power) "Main Supply Input. Connect to a -45V to -57V supply, relative to AGND.", 26 VEE (power) "Main Supply Input. Connect to a -45V to -57V supply, relative to AGND.", 27 VEE (power) "Main Supply Input. Connect to a -45V to -57V supply, relative to AGND.", 39 EP (power)